# Altium footprint library S1WB60B.PcbLib: 1 footprints
Each footprint in its own frame and in the unit in brackets; x right, y up, seen from the top. Pads: shape width x height; smd on the part's side, far side on the other; paste and mask are expansions set on the pad; w line width, h text height; cw(c..) or ccw(c..) is an arc to the next point about the centre after c.
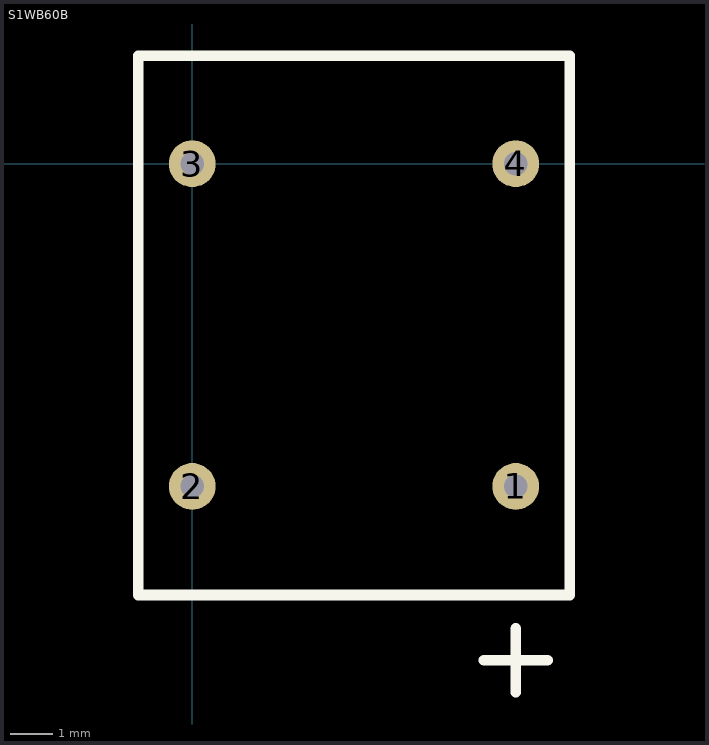
[diagram p0: the footprint, top view; thin cyan lines are the x and y axes]

## S1WB60B [mm] "rectificador de tension"
pads (4):
  round 1.1 hole 0.55: 1(7.62,-7.6) 2(0,-7.6) 3(0,0) 4(7.62,0)
Top Overlay:
  lines w0.254: 6.87,-11.696 8.37,-11.696 ; 7.62,-12.446 7.62,-10.946 ; -1.27,-10.16 -1.27,2.54 8.89,2.54 8.89,-10.16 -1.27,-10.16
Bottom Overlay:
  rectangle: -1.27,-1.27 8.89,1.397
  rectangle: -1.27,-9.144 8.89,-6.477
  lines w0.254: -0.619,-5.715 0.381,-5.715 ; 7.12,-5.715 8.12,-5.715 ; 7.62,-6.215 7.62,-5.215 ; -1.27,-9.144 -1.27,1.397 8.89,1.397 8.89,-9.144 -1.27,-9.144
  text "~" at 6.988,-2.789 h3
  text "~" at -0.632,-2.789 h3
3D body "s1wb.STEP": height 4.7, standoff -3.05, extent -0.125,-9.06 7.745,1.44